# EAGLE library part XF2*-13? (library con-omron)
OMRON FPC Connector Source : http://www.omron.com/ecb/products/pdf/fpc.pdf
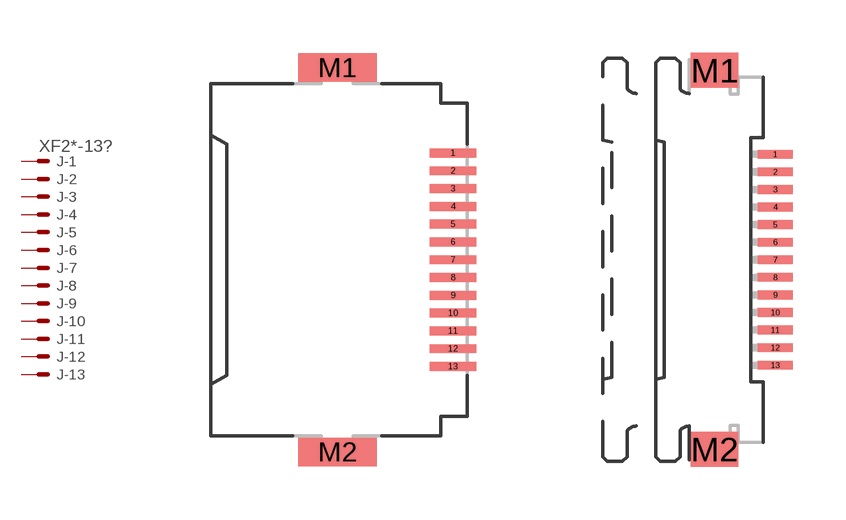
[diagram p6: symbol with the pads of XF2H-1315-1LW; footprints XF2H-1315-1LW, XF2L-1325-1]

Designator prefix J; gates -1=PV -2=P -3=P -4=P -5=P -6=P -7=P -8=P -9=P -10=P -11=P -12=P -13=P

## XF2H-1315-1LW  [XF2H-1315-1LW]
1  -1:MSV  pas
2  -2:MS  pas
3  -3:MS  pas
4  -4:MS  pas
5  -5:MS  pas
6  -6:MS  pas
7  -7:MS  pas
8  -8:MS  pas
9  -9:MS  pas
10  -10:MS  pas
11  -11:MS  pas
12  -12:MS  pas
13  -13:MS  pas

## XF2L-1325-1  [XF2L-1325-1]
Pads as for XF2H-1315-1LW

## XF2L-1335-1  [XF2L-1335-1]
Pads as for XF2H-1315-1LW

## Footprint XF2H-1315-1LW (pad centres in mm)
Standard Rotary Backlock Type (0.5 mm-pitch) Source : http://www.omron.com/ecb/products/pdf/fpc.pdf
smd 1.3 x 0.25: 1 3.175,3; 2 3.175,2.5; 3 3.175,2; 4 3.175,1.5; 5 3.175,1; 6 3.175,0.5; 7 3.175,0; 8 3.175,-0.5; 9 3.175,-1; 10 3.175,-1.5; 11 3.175,-2; 12 3.175,-2.5; 13 3.175,-3
smd 2.2 x 0.8: M1 -0.075,5.4; M2 -0.075,-5.4

## Footprint XF2L-1325-1 (pad centres in mm)
ZIF Slide-locking Type (0.5 mm-pitch) Upper-contact Type Source : http://www.omron.com/ecb/products/pdf/fpc.pdf
smd 1 x 0.25: 1 1.905,3; 2 1.905,2.5; 3 1.905,2; 4 1.905,1.5; 5 1.905,1; 6 1.905,0.5; 7 1.905,0; 8 1.905,-0.5; 9 1.905,-1; 10 1.905,-1.5; 11 1.905,-2; 12 1.905,-2.5; 13 1.905,-3
smd 1.34 x 1: M1 0.18,5.388; M2 0.18,-5.388

## Footprint XF2L-1335-1 (pad centres in mm)
ZIF Slide-locking Type (0.5 mm-pitch) Lower-contact Type Source : http://www.omron.com/ecb/products/pdf/fpc.pdf
smd 1 x 0.25: 1 1.905,3; 2 1.905,2.5; 3 1.905,2; 4 1.905,1.5; 5 1.905,1; 6 1.905,0.5; 7 1.905,0; 8 1.905,-0.5; 9 1.905,-1; 10 1.905,-1.5; 11 1.905,-2; 12 1.905,-2.5; 13 1.905,-3
smd 1.34 x 1: M1 0.18,5.388; M2 0.18,-5.388